# Altium footprint library LE910.PcbLib: 1 footprints
Each footprint in its own frame and in the unit in brackets; x right, y up, seen from the top. Pads: shape width x height; smd on the part's side, far side on the other; paste and mask are expansions set on the pad; w line width, h text height; cw(c..) or ccw(c..) is an arc to the next point about the centre after c.
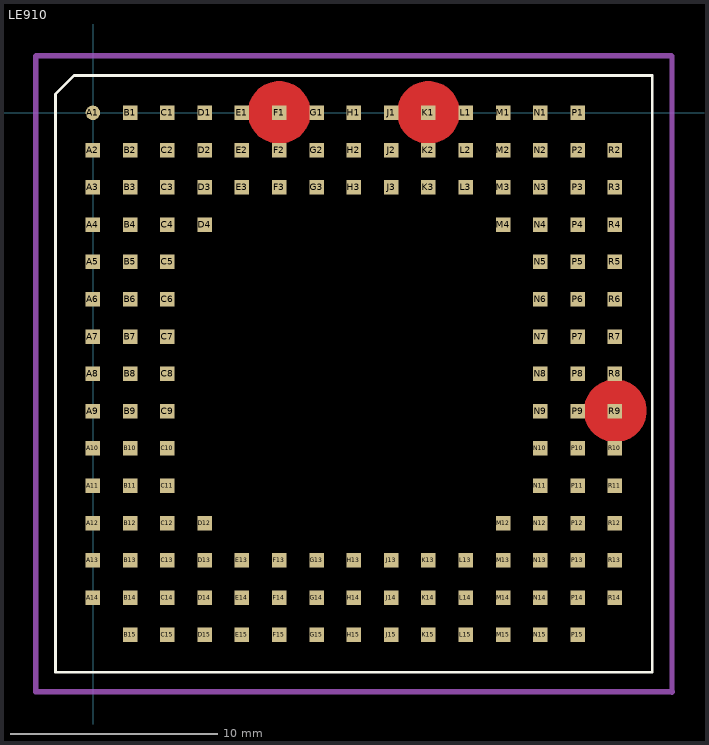
[diagram p0: the footprint, top view; thin cyan lines are the x and y axes]

## LE910 [mm] "LGA 144-pin"
height 2.25
pads (145):
  round 0.7 smd mask+0.1: A1(-0.022,0)
  rect 0.7x0.7 smd mask+0.1: A2(-0.022,-1.8) A3(-0.022,-3.6) A4(-0.022,-5.4) A5(-0.022,-7.2) A6(-0.022,-9) A7(-0.022,-10.8) A8(-0.022,-12.6) A9(-0.022,-14.4) A10(-0.022,-16.2) A11(-0.022,-18) A12(-0.022,-19.8) A13(-0.022,-21.6) A14(-0.022,-23.4) B1(1.778,0) B2(1.778,-1.8) B3(1.778,-3.6) B4(1.778,-5.4) B5(1.778,-7.2) B6(1.778,-9) B7(1.778,-10.8) B8(1.778,-12.6) B9(1.778,-14.4) B10(1.778,-16.2) B11(1.778,-18) B12(1.778,-19.8) B13(1.778,-21.6) B14(1.778,-23.4) B15(1.778,-25.2) C1(3.578,0) C2(3.578,-1.8) C3(3.578,-3.6) C4(3.578,-5.4) C5(3.578,-7.2) C6(3.578,-9) C7(3.578,-10.8) C8(3.578,-12.6) C9(3.578,-14.4) C10(3.578,-16.2) C11(3.578,-18) C12(3.578,-19.8) C13(3.578,-21.6) C14(3.578,-23.4) C15(3.578,-25.2) D1(5.378,0) D2(5.378,-1.8) D3(5.378,-3.6) D4(5.378,-5.4) D12(5.378,-19.8) D13(5.378,-21.6) D14(5.378,-23.4) D15(5.378,-25.2) E1(7.178,0) E2(7.178,-1.8) E3(7.178,-3.6) E13(7.178,-21.6) E14(7.178,-23.4) E15(7.178,-25.2) F1(8.978,0) F2(8.978,-1.8) F3(8.978,-3.6) F13(8.978,-21.6) F14(8.978,-23.4) F15(8.978,-25.2) G1(10.778,0) G2(10.778,-1.8) G3(10.778,-3.6) G13(10.778,-21.6) G14(10.778,-23.4) G15(10.778,-25.2) H1(12.578,0) H2(12.578,-1.8) H3(12.578,-3.6) H13(12.578,-21.6) H14(12.578,-23.4) H15(12.578,-25.2) J1(14.378,0) J2(14.378,-1.8) J3(14.378,-3.6) J13(14.378,-21.6) J14(14.378,-23.4) J15(14.378,-25.2) K1(16.178,0) K2(16.178,-1.8) K3(16.178,-3.6) K13(16.178,-21.6) K14(16.178,-23.4) K15(16.178,-25.2) L1(17.978,0) L2(17.978,-1.8) L3(17.978,-3.6) L13(17.978,-21.6) L14(17.978,-23.4) L15(17.978,-25.2) M1(19.778,0) M2(19.778,-1.8) M3(19.778,-3.6) M4(19.778,-5.4) M12(19.778,-19.8) M13(19.778,-21.6) M14(19.778,-23.4) M15(19.778,-25.2) N1(21.578,0) N2(21.578,-1.8) N3(21.578,-3.6) N4(21.578,-5.4) N5(21.578,-7.2) N6(21.578,-9) N7(21.578,-10.8) N8(21.578,-12.6) N9(21.578,-14.4) N10(21.578,-16.2) N11(21.578,-18) N12(21.578,-19.8) N13(21.578,-21.6) N14(21.578,-23.4) N15(21.578,-25.2) P1(23.378,0) P2(23.378,-1.8) P3(23.378,-3.6) P4(23.378,-5.4) P5(23.378,-7.2) P6(23.378,-9) P7(23.378,-10.8) P8(23.378,-12.6) P9(23.378,-14.4) P10(23.378,-16.2) P11(23.378,-18) P12(23.378,-19.8) P13(23.378,-21.6) P14(23.378,-23.4) P15(23.378,-25.2) R2(25.178,-1.8) R3(25.178,-3.6) R4(25.178,-5.4) R5(25.178,-7.2) R6(25.178,-9) R7(25.178,-10.8) R8(25.178,-12.6) R9(25.178,-14.4) R10(25.178,-16.2) R11(25.178,-18) R12(25.178,-19.8) R13(25.178,-21.6) R14(25.178,-23.4)
Top Layer:
  pour cut-out: 8.977,-1.483 9.124,-1.483 9.414,-1.426 9.687,-1.312 9.933,-1.148 10.142,-0.939 10.306,-0.694 10.419,-0.421 10.477,-0.131 10.477,0.017 10.477,0.165 10.419,0.454 10.306,0.727 10.142,0.973 9.933,1.182 9.687,1.346 9.414,1.459 9.124,1.517 8.977,1.517 8.829,1.517 8.539,1.459 8.266,1.346 8.02,1.182 7.811,0.973 7.647,0.727 7.534,0.454 7.477,0.165 7.477,0.017 7.477,-0.131 7.534,-0.421 7.647,-0.694 7.811,-0.939 8.02,-1.148 8.266,-1.312 8.539,-1.426 8.829,-1.483
  pour cut-out: 16.177,-1.483 16.324,-1.483 16.614,-1.426 16.887,-1.312 17.133,-1.148 17.342,-0.939 17.506,-0.694 17.619,-0.421 17.677,-0.131 17.677,0.017 17.677,0.165 17.619,0.454 17.506,0.727 17.342,0.973 17.133,1.182 16.887,1.346 16.614,1.459 16.324,1.517 16.177,1.517 16.029,1.517 15.739,1.459 15.466,1.346 15.22,1.182 15.011,0.973 14.847,0.727 14.734,0.454 14.677,0.165 14.677,0.017 14.677,-0.131 14.734,-0.421 14.847,-0.694 15.011,-0.939 15.22,-1.148 15.466,-1.312 15.739,-1.426 16.029,-1.483
  pour cut-out: 25.195,-15.883 25.343,-15.883 25.633,-15.826 25.906,-15.712 26.152,-15.548 26.361,-15.339 26.525,-15.094 26.638,-14.821 26.695,-14.531 26.695,-14.383 26.695,-14.235 26.638,-13.946 26.525,-13.673 26.361,-13.427 26.152,-13.218 25.906,-13.054 25.633,-12.941 25.343,-12.883 25.195,-12.883 25.048,-12.883 24.758,-12.941 24.485,-13.054 24.239,-13.218 24.03,-13.427 23.866,-13.673 23.753,-13.946 23.695,-14.235 23.695,-14.383 23.695,-14.531 23.753,-14.821 23.866,-15.094 24.03,-15.339 24.239,-15.548 24.485,-15.712 24.758,-15.826 25.048,-15.883
Top Overlay:
  lines w0.127: -1.822,-27 -1.822,0.9 -0.922,1.8 26.978,1.8 26.978,-27 -1.822,-27
Mechanical 1:
  lines w0.254: -2.772,-27.94 -2.772,2.74 -2.762,2.75 27.908,2.75 27.928,2.73 27.928,-27.965 ; -2.769,-27.95 27.94,-27.95
3D body "LE910.STEP": height 2.15, standoff 0, extent -1.524,-26.67 26.676,1.53